# EAGLE library part MAG_PULSE_HX1188FNL (library ek-tm4c129exl)
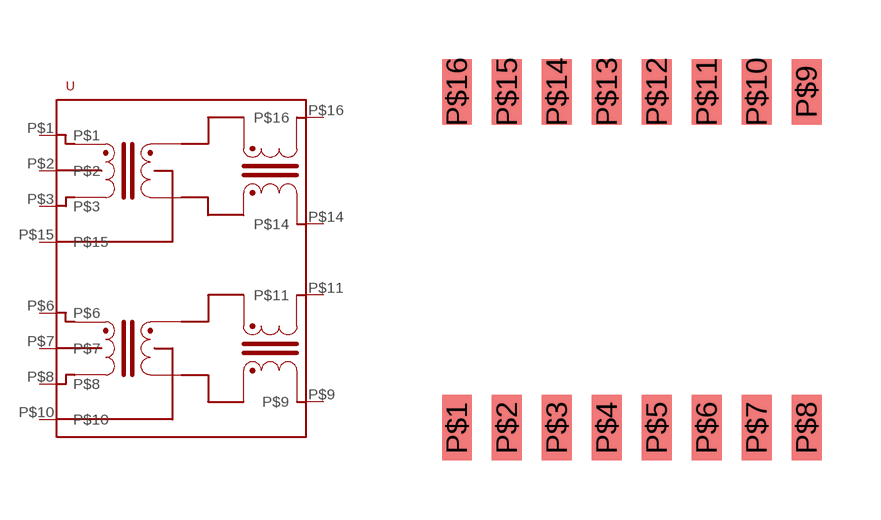
[diagram p4: symbol with the pads of MAG_PULSE_HX1188FNL; footprint MAG_PULSE_HX1188FNL]

Designator prefix -

## MAG_PULSE_HX1188FNL  [MAG_PULSE_HX1188FNL]
P$1  P$1
P$2  P$2
P$3  P$3
P$6  P$6
P$7  P$7
P$8  P$8
P$9  P$9
P$10  P$10
P$11  P$11
P$14  P$14
P$15  P$15
P$16  P$16

## Footprint MAG_PULSE_HX1188FNL (pad centres in mm)
smd 0.76 x 1.67: P$1 0,0; P$2 1.27,0; P$3 2.54,0; P$4 3.81,0; P$5 5.08,0; P$6 6.35,0; P$7 7.62,0; P$8 8.89,0; P$9 8.89,8.55; P$10 7.62,8.55; P$11 6.35,8.55; P$12 5.08,8.55; P$13 3.81,8.55; P$14 2.54,8.55; P$15 1.27,8.55; P$16 0,8.55